# Altium footprint library RF_shield.PcbLib: 1 footprints
Each footprint in its own frame and in the unit in brackets; x right, y up, seen from the top. Pads: shape width x height; smd on the part's side, far side on the other; paste and mask are expansions set on the pad; w line width, h text height; cw(c..) or ccw(c..) is an arc to the next point about the centre after c.
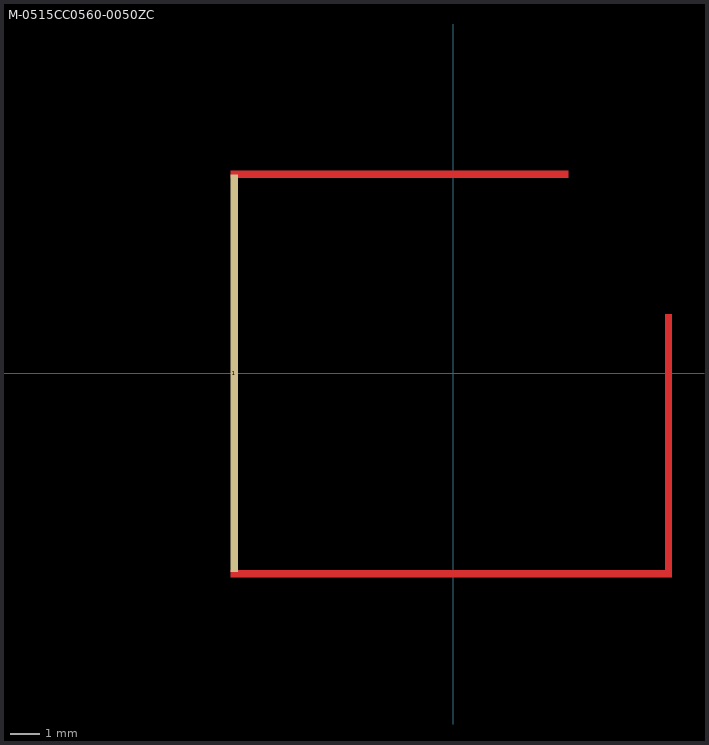
[diagram p0: the footprint, top view; thin cyan lines are the x and y axes]

## M-0515CC0560-0050ZC [mil] "M-0515CC0560-0050ZC RF Shield"
pads (1):
  rect 10x535 smd: 1(-295,0)
Top Layer:
  rectangle: -300,263 155,273
  rectangle: -300,-275 295,-265
  rectangle: 285,-275 295,80
Top Solder:
  lines w20: 150,268.18 -291.82,268.18 -295,265 -295,-270 290,-270 290,75